# Altium schematic symbol library dupont.SchLib: 1 symbol
Pins are listed as number, name and electrical type; pins without a type are passive.

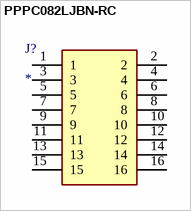
[diagram p0: symbol PPPC082LJBN-RC]

## PPPC082LJBN-RC
designator J?
Connector; Manufacturer_Name: Sullins; Manufacturer_Part_Number: PPPC082LJBN-RC; Datasheet Link: https://drawings-pdf.s3.amazonaws.com/10494.pdf; Height: 5.28mm
footprint RHDRRA16W60P254X254_2X8_2082X850X528P
footprint RFD900x
pins: 1, 2, 3, 4, 5, 6, 7, 8, 9, 10, 11, 12, 13, 14, 15, 16
1 alternate drawing of the same symbol